# Altium integrated library PMIC-XC6206P182MR_SOT23_.IntLib: 1 symbol
Pins are listed as number, name and electrical type; pins without a type are passive.

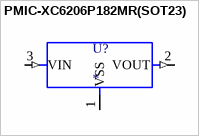
[diagram p0: symbol PMIC-XC6206P182MR(SOT23)]

## PMIC-XC6206P182MR(SOT23)
designator U?
Linear Voltage Regulator IC Positive Fixed 1 Output 80mA SOT-23; MF: Torex; MP: XC6206P182MR; SnapEDA_Link: https://www.snapeda.com/parts/XC6206P182MR/Torex/view-part/?ref=snap; Package: SOT-23-3 Torex; Value: *; Check_prices: https://www.snapeda.com/parts/XC6206P182MR/Torex/view-part/?ref=eda
footprint SOT-23
pins: 1 VSS (power), 2 VOUT (out), 3 VIN (in)